# EAGLE library part MCP660-E/SL (library Microchip)
IC, 60 MHz, 6 mA Triple Op Amp,SOIC-14
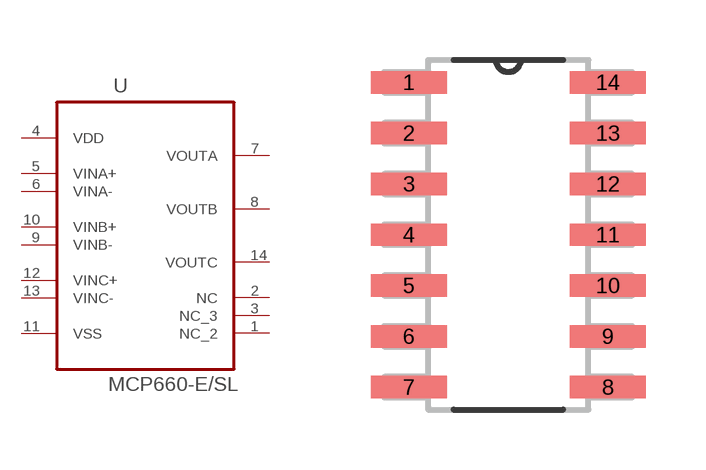
[diagram p0: symbol with the pads of SOIC127P600X175-14N; footprint SOIC127P600X175-14N]

Designator prefix U

## MCP660-E/SL (MPN: MCP660-E/SL; OC_FARNELL: 2065852; OC_NEWARK: 55T3281; PACKAGE: SOIC-14; SUPPLIER: Microchip)  [SOIC127P600X175-14N]
1  NC_2  nc
2  NC  nc
3  NC_3  nc
4  VDD  pwr
5  VINA+  in
6  VINA-  in
7  VOUTA  out
8  VOUTB  out
9  VINB-  in
10  VINB+  in
11  VSS  pwr
12  VINC+  in
13  VINC-  in
14  VOUTC  out

## Footprint SOIC127P600X175-14N (pad centres in mm)
smd 1.905 x 0.559: 1 -2.489,3.81; 2 -2.489,2.54; 3 -2.489,1.27; 4 -2.489,0; 5 -2.489,-1.27; 6 -2.489,-2.54; 7 -2.489,-3.81; 8 2.489,-3.81; 9 2.489,-2.54; 10 2.489,-1.27; 11 2.489,0; 12 2.489,1.27; 13 2.489,2.54; 14 2.489,3.81